# EAGLE library part SX1280IMLTRT (library shrew-core)
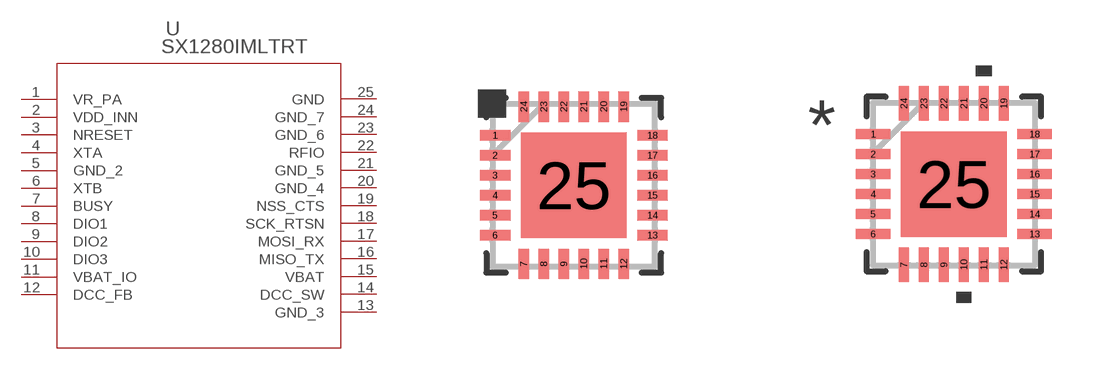
[diagram p1: symbol with the pads of QFN24_4X4_SEM; footprints QFN24_4X4_SEM, QFN24_4X4_SEM-M]

Designator prefix U

## SX1280IMLTRT (COPYRIGHT: Copyright (C) 2024 Ultra Librarian. All rights reserved.; MANUFACTURER_PART_NUMBER: SX1280IMLTRT; MFR_NAME: Semtech)  [QFN24_4X4_SEM]
1  VR_PA  pwr
2  VDD_INN  pwr
3  NRESET  in
4  XTA
5  GND_2  pas
6  XTB
7  BUSY  out
8  DIO1
9  DIO2
10  DIO3
11  VBAT_IO  pwr
12  DCC_FB  out
13  GND_3  pas
14  DCC_SW  out
15  VBAT  pwr
16  MISO_TX  out
17  MOSI_RX  in
18  SCK_RTSN  in
19  NSS_CTS  in
20  GND_4  pas
21  GND_5  pas
22  RFIO
23  GND_6  pas
24  GND_7  pas
25  GND  pas

## SX1280IMLTRTQFN24_4X4_SEM-M (COPYRIGHT: Copyright (C) 2024 Ultra Librarian. All rights reserved.; MANUFACTURER_PART_NUMBER: SX1280IMLTRT; MFR_NAME: Semtech)  [QFN24_4X4_SEM-M]
Pads as for QFN24_4X4_SEM

## SX1280IMLTRTQFN24_4X4_SEM-L (COPYRIGHT: Copyright (C) 2024 Ultra Librarian. All rights reserved.; MANUFACTURER_PART_NUMBER: SX1280IMLTRT; MFR_NAME: Semtech)  [QFN24_4X4_SEM-L]
Pads as for QFN24_4X4_SEM

## Footprint QFN24_4X4_SEM (pad centres in mm)
smd 0.762 x 0.254: 1 -1.968,1.25; 2 -1.968,0.75; 3 -1.968,0.25; 4 -1.968,-0.25; 5 -1.968,-0.75; 6 -1.968,-1.25; 13 1.968,-1.25; 14 1.968,-0.75; 15 1.968,-0.25; 16 1.968,0.25; 17 1.968,0.75; 18 1.968,1.25
smd 0.254 x 0.762: 7 -1.25,-1.968; 8 -0.75,-1.968; 9 -0.25,-1.968; 10 0.25,-1.968; 11 0.75,-1.968; 12 1.25,-1.968; 19 1.25,1.968; 20 0.75,1.968; 21 0.25,1.968; 22 -0.25,1.968; 23 -0.75,1.968; 24 -1.25,1.968
smd 2.642 x 2.642: 25 0,0

## Footprint QFN24_4X4_SEM-M (pad centres in mm)
smd 0.864 x 0.254: 1 -2.019,1.25; 2 -2.019,0.75; 3 -2.019,0.25; 4 -2.019,-0.25; 5 -2.019,-0.75; 6 -2.019,-1.25; 13 2.019,-1.25; 14 2.019,-0.75; 15 2.019,-0.25; 16 2.019,0.25; 17 2.019,0.75; 18 2.019,1.25
smd 0.254 x 0.864: 7 -1.25,-2.019; 8 -0.75,-2.019; 9 -0.25,-2.019; 10 0.25,-2.019; 11 0.75,-2.019; 12 1.25,-2.019; 19 1.25,2.019; 20 0.75,2.019; 21 0.25,2.019; 22 -0.25,2.019; 23 -0.75,2.019; 24 -1.25,2.019
smd 2.642 x 2.642: 25 0,0

## Footprint QFN24_4X4_SEM-L (pad centres in mm)
smd 0.66 x 0.254: 1 -1.918,1.25; 2 -1.918,0.75; 3 -1.918,0.25; 4 -1.918,-0.25; 5 -1.918,-0.75; 6 -1.918,-1.25; 13 1.918,-1.25; 14 1.918,-0.75; 15 1.918,-0.25; 16 1.918,0.25; 17 1.918,0.75; 18 1.918,1.25
smd 0.254 x 0.66: 7 -1.25,-1.918; 8 -0.75,-1.918; 9 -0.25,-1.918; 10 0.25,-1.918; 11 0.75,-1.918; 12 1.25,-1.918; 19 1.25,1.918; 20 0.75,1.918; 21 0.25,1.918; 22 -0.25,1.918; 23 -0.75,1.918; 24 -1.25,1.918
smd 2.642 x 2.642: 25 0,0